# Altium footprint library MAX9700DEUB+.PcbLib: 2 footprints
Each footprint in its own frame and in the unit in brackets; x right, y up, seen from the top. Pads: shape width x height; smd on the part's side, far side on the other; paste and mask are expansions set on the pad; w line width, h text height; cw(c..) or ccw(c..) is an arc to the next point about the centre after c.
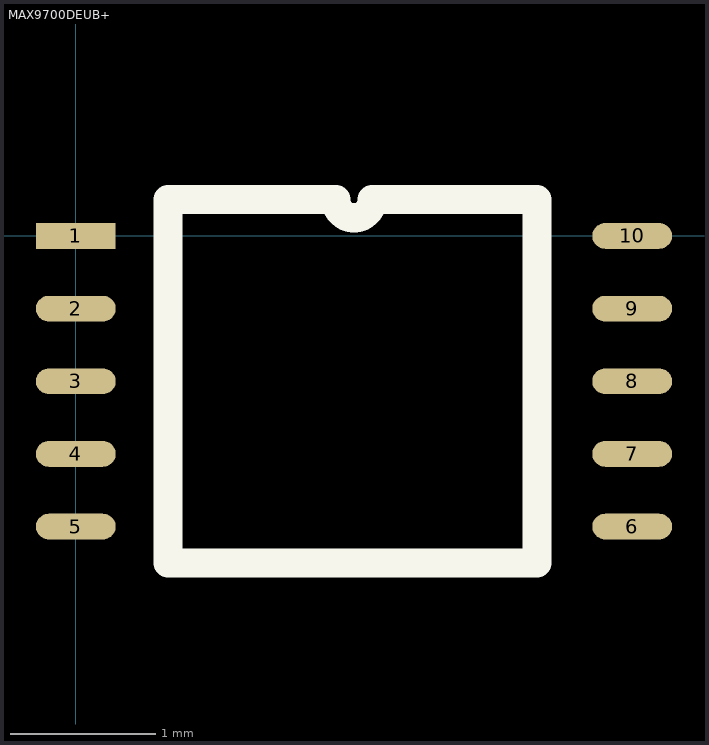
[diagram p0: the footprints below, top view; thin cyan lines are the x and y axes]

## MAX9700DEUB+ [mm]
pads (10):
  rect 0.55x0.177 smd: 1(0,0)
  oval 0.55x0.177 smd: 2(0,-0.5) 3(0,-1) 4(0,-1.5) 5(0,-2) 6(3.83,-2) 7(3.83,-1.5) 8(3.83,-1) 9(3.83,-0.5) 10(3.83,0)
Top Overlay:
  lines w0.2: 0.635,-2.25 3.175,-2.25 3.175,0.25 2.04,0.25 cw(c1.915,0.25) 1.79,0.25 0.635,0.25 0.635,-2.25

## PCBComponent_1 [mm]